# EAGLE library part FLASH-256KX8-TSOP32 (library xess)
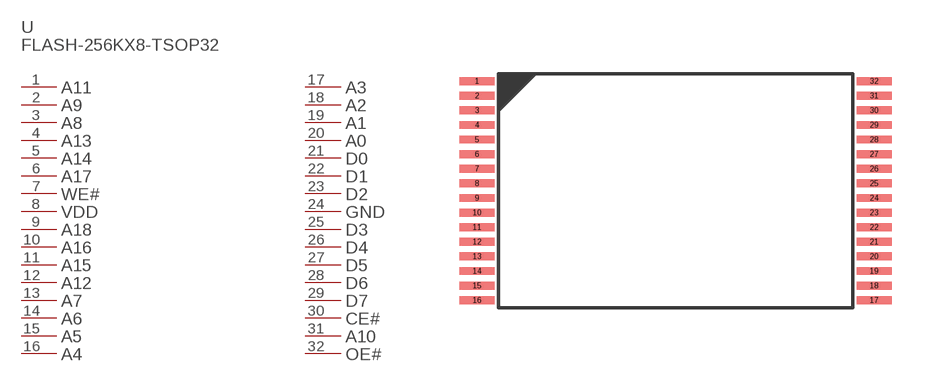
[diagram p88: symbol with the pads of FLASH-256KX8-TSOP32; footprint FLASH-256KX8-TSOP32]

Designator prefix U; gates PART_VALUE=PART_VALUE-FLASH-256KX8-TSOP32 A11=PL-FLASH-256KX8-TSOP32 A9=PL-FLASH-256KX8-TSOP32 A8=PL-FLASH-256KX8-TSOP32 A13=PL-FLASH-256KX8-TSOP32 A14=PL-FLASH-256KX8-TSOP32 A17=PL-FLASH-256KX8-TSOP32 WE#=PL-FLASH-256KX8-TSOP32 VDD=PL-FLASH-256KX8-TSOP32 A18=PL-FLASH-256KX8-TSOP32 A16=PL-FLASH-256KX8-TSOP32 A15=PL-FLASH-256KX8-TSOP32 A12=PL-FLASH-256KX8-TSOP32 A7=PL-FLASH-256KX8-TSOP32 A6=PL-FLASH-256KX8-TSOP32 A5=PL-FLASH-256KX8-TSOP32 A4=PL-FLASH-256KX8-TSOP32 A3=PL-FLASH-256KX8-TSOP32 A2=PL-FLASH-256KX8-TSOP32 A1=PL-FLASH-256KX8-TSOP32 A0=PL-FLASH-256KX8-TSOP32 D0=PL-FLASH-256KX8-TSOP32 D1=PL-FLASH-256KX8-TSOP32 D2=PL-FLASH-256KX8-TSOP32 GND=PL-FLASH-256KX8-TSOP32 D3=PL-FLASH-256KX8-TSOP32 D4=PL-FLASH-256KX8-TSOP32 D5=PL-FLASH-256KX8-TSOP32 D6=PL-FLASH-256KX8-TSOP32 D7=PL-FLASH-256KX8-TSOP32 CE#=PL-FLASH-256KX8-TSOP32 A10=PL-FLASH-256KX8-TSOP32 OE#=PL-FLASH-256KX8-TSOP32

## FLASH-256KX8-TSOP32  [FLASH-256KX8-TSOP32]
1  A11:P$1
2  A9:P$1
3  A8:P$1
4  A13:P$1
5  A14:P$1
6  A17:P$1
7  WE#:P$1
8  VDD:P$1
9  A18:P$1
10  A16:P$1
11  A15:P$1
12  A12:P$1
13  A7:P$1
14  A6:P$1
15  A5:P$1
16  A4:P$1
17  A3:P$1
18  A2:P$1
19  A1:P$1
20  A0:P$1
21  D0:P$1
22  D1:P$1
23  D2:P$1
24  GND:P$1
25  D3:P$1
26  D4:P$1
27  D5:P$1
28  D6:P$1
29  D7:P$1
30  CE#:P$1
31  A10:P$1
32  OE#:P$1

## Footprint FLASH-256KX8-TSOP32 (pad centres in mm)
smd 1.2 x 0.27: 1 -0.1,0; 2 -0.1,-0.5; 3 -0.1,-1; 4 -0.1,-1.5; 5 -0.1,-2; 6 -0.1,-2.5; 7 -0.1,-3; 8 -0.1,-3.5; 9 -0.1,-4; 10 -0.1,-4.5; 11 -0.1,-5; 12 -0.1,-5.5; 13 -0.1,-6; 14 -0.1,-6.5; 15 -0.1,-7; 16 -0.1,-7.5; 17 13.5,-7.5; 18 13.5,-7; 19 13.5,-6.5; 20 13.5,-6; 21 13.5,-5.5; 22 13.5,-5; 23 13.5,-4.5; 24 13.5,-4; 25 13.5,-3.5; 26 13.5,-3; 27 13.5,-2.5; 28 13.5,-2; 29 13.5,-1.5; 30 13.5,-1; 31 13.5,-0.5; 32 13.5,0